# Altium integrated library Linear Technology Operational Amplifiers (LT2000-LT6000).IntLib: 1710 symbols (part 1 of 75)
Pins are listed as number, name and electrical type; pins without a type are passive.

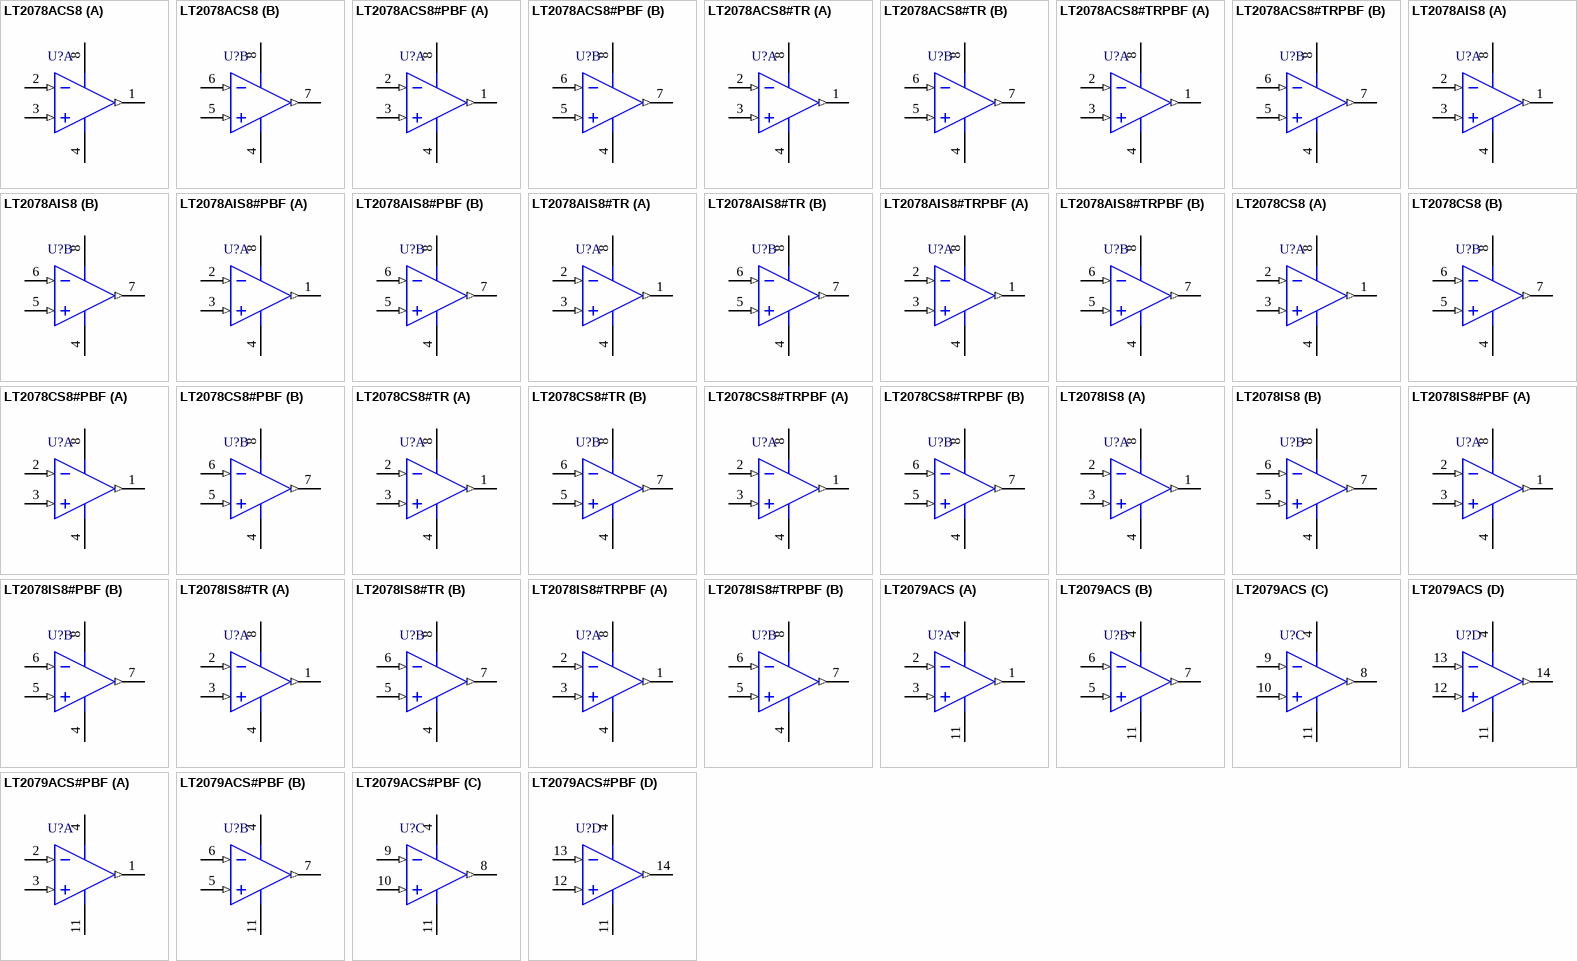
[diagram p0: symbols LT2078ACS8 to LT2079ACS#PBF]

## LT2078ACS8
designator U?
Dual Channel, Micropower, Standard Pinout, Single Supply Precision Operational Amplifier, 0.2 MHz Typical GBW, 0.07 V/us Typical SR, 2.3 to 44 V, 8-Pin SOIC (S8-8), Commerial; Linear Technology Part Number: LT2078; Manufacturer: Linear Technology; PartNumber: LT2078ACS8; Channels (#): 2; GBW (MHz) Typical: 0.2; Is (mA) Typical: 0.035; SR (V/us) Typical: 0.07; Vos (mV) Typical: 0.03; Vs Max (V): 44; Vs Min (V): 2.3; DatasheetVersion: Rev. A; PackageVersion: Rev G; PackageReference: LT-S8-8; PackageDescription: 8-Pin Plastic Small Outline, Body 4.9 x 3.9 mm, Pitch 1.27 mm; Supplier 1: Digi-Key; Supplier Part Number 1: LT2078ACS8-ND; Type: VFB; Vos (mV) Guaranteed: 0.07; Mounting Technology: Surface Mount; ComponentLink1Description: Manufacturer URL; ComponentLink1URL: http://www.linear.com/; ComponentLink2Description: Datasheet; ComponentLink2URL: http://cds.linear.com/docs/en/datasheet/20789fa.pdf; ComponentLink3Description: Package Specification; ComponentLink3URL: http://cds.linear.com/docs/en/packaging/05081610_G_SO8.pdf
footprint LT-S8-8_N (SOIC, 8-Leads, Body 4.9x3.9mm, Pitch 1.27mm, IPC Medium Density)
footprint LT-S8-8_L (SOIC, 8-Leads, Body 4.9x3.9mm, Pitch 1.27mm, IPC High Density)
footprint LT-S8-8_M (SOIC, 8-Leads, Body 4.9x3.9mm, Pitch 1.27mm, IPC Low Density)
pins on every part: 4 V- (power), 8 V+ (power)
part A pins: 1 OUT A (out), 2 -IN A (in), 3 +IN A (in)
part B pins: 5 +IN B (in), 6 -IN B (in), 7 OUT B (out)

## LT2078ACS8#PBF
designator U?
Dual Channel, Micropower, Standard Pinout, Single Supply Precision Operational Amplifier, 0.2 MHz Typical GBW, 0.07 V/us Typical SR, 2.3 to 44 V, 8-Pin SOIC (S8-8), Commerial, Pb-Free; Linear Technology Part Number: LT2078; Manufacturer: Linear Technology; PartNumber: LT2078ACS8#PBF; Channels (#): 2; GBW (MHz) Typical: 0.2; Is (mA) Typical: 0.035; SR (V/us) Typical: 0.07; Vos (mV) Typical: 0.03; Vs Max (V): 44; Vs Min (V): 2.3; DatasheetVersion: Rev. A; PackageVersion: Rev G; PackageReference: LT-S8-8; PackageDescription: 8-Pin Plastic Small Outline, Body 4.9 x 3.9 mm, Pitch 1.27 mm; Supplier 1: Digi-Key; Supplier Part Number 1: LT2078ACS8#PBF-ND; RoHS: Pb-Free; Type: VFB; Vos (mV) Guaranteed: 0.07; Mounting Technology: Surface Mount; ComponentLink1Description: Manufacturer URL; ComponentLink1URL: http://www.linear.com/; ComponentLink2Description: Datasheet; ComponentLink2URL: http://cds.linear.com/docs/en/datasheet/20789fa.pdf; ComponentLink3Description: Package Specification; ComponentLink3URL: http://cds.linear.com/docs/en/packaging/05081610_G_SO8.pdf
footprint LT-S8-8_N (SOIC, 8-Leads, Body 4.9x3.9mm, Pitch 1.27mm, IPC Medium Density)
footprint LT-S8-8_L (SOIC, 8-Leads, Body 4.9x3.9mm, Pitch 1.27mm, IPC High Density)
footprint LT-S8-8_M (SOIC, 8-Leads, Body 4.9x3.9mm, Pitch 1.27mm, IPC Low Density)
pins on every part: 4 V- (power), 8 V+ (power)
part A pins: 1 OUT A (out), 2 -IN A (in), 3 +IN A (in)
part B pins: 5 +IN B (in), 6 -IN B (in), 7 OUT B (out)

## LT2078ACS8#TR
designator U?
Dual Channel, Micropower, Standard Pinout, Single Supply Precision Operational Amplifier, 0.2 MHz Typical GBW, 0.07 V/us Typical SR, 2.3 to 44 V, 8-Pin SOIC (S8-8), Commerial, Reel; Linear Technology Part Number: LT2078; Manufacturer: Linear Technology; PartNumber: LT2078ACS8#TR; Channels (#): 2; GBW (MHz) Typical: 0.2; Is (mA) Typical: 0.035; SR (V/us) Typical: 0.07; Vos (mV) Typical: 0.03; Vs Max (V): 44; Vs Min (V): 2.3; DatasheetVersion: Rev. A; PackageVersion: Rev G; PackageReference: LT-S8-8; PackageDescription: 8-Pin Plastic Small Outline, Body 4.9 x 3.9 mm, Pitch 1.27 mm; Supplier 1: Digi-Key; Supplier Part Number 1: LT2078ACS8#TR-ND; Packing: Reel; Type: VFB; Vos (mV) Guaranteed: 0.07; Mounting Technology: Surface Mount; ComponentLink1Description: Manufacturer URL; ComponentLink1URL: http://www.linear.com/; ComponentLink2Description: Datasheet; ComponentLink2URL: http://cds.linear.com/docs/en/datasheet/20789fa.pdf; ComponentLink3Description: Package Specification; ComponentLink3URL: http://cds.linear.com/docs/en/packaging/05081610_G_SO8.pdf
footprint LT-S8-8_N (SOIC, 8-Leads, Body 4.9x3.9mm, Pitch 1.27mm, IPC Medium Density)
footprint LT-S8-8_L (SOIC, 8-Leads, Body 4.9x3.9mm, Pitch 1.27mm, IPC High Density)
footprint LT-S8-8_M (SOIC, 8-Leads, Body 4.9x3.9mm, Pitch 1.27mm, IPC Low Density)
pins on every part: 4 V- (power), 8 V+ (power)
part A pins: 1 OUT A (out), 2 -IN A (in), 3 +IN A (in)
part B pins: 5 +IN B (in), 6 -IN B (in), 7 OUT B (out)

## LT2078ACS8#TRPBF
designator U?
Dual Channel, Micropower, Standard Pinout, Single Supply Precision Operational Amplifier, 0.2 MHz Typical GBW, 0.07 V/us Typical SR, 2.3 to 44 V, 8-Pin SOIC (S8-8), Commerial, Pb-Free, Reel; Linear Technology Part Number: LT2078; Manufacturer: Linear Technology; PartNumber: LT2078ACS8#TRPBF; Channels (#): 2; GBW (MHz) Typical: 0.2; Is (mA) Typical: 0.035; SR (V/us) Typical: 0.07; Vos (mV) Typical: 0.03; Vs Max (V): 44; Vs Min (V): 2.3; DatasheetVersion: Rev. A; PackageVersion: Rev G; PackageReference: LT-S8-8; PackageDescription: 8-Pin Plastic Small Outline, Body 4.9 x 3.9 mm, Pitch 1.27 mm; Supplier 1: Digi-Key; Supplier Part Number 1: LT2078ACS8#TRPBF-ND; Packing: Reel; RoHS: Pb-Free; Type: VFB; Vos (mV) Guaranteed: 0.07; Mounting Technology: Surface Mount; ComponentLink1Description: Manufacturer URL; ComponentLink1URL: http://www.linear.com/; ComponentLink2Description: Datasheet; ComponentLink2URL: http://cds.linear.com/docs/en/datasheet/20789fa.pdf; ComponentLink3Description: Package Specification; ComponentLink3URL: http://cds.linear.com/docs/en/packaging/05081610_G_SO8.pdf
footprint LT-S8-8_N (SOIC, 8-Leads, Body 4.9x3.9mm, Pitch 1.27mm, IPC Medium Density)
footprint LT-S8-8_L (SOIC, 8-Leads, Body 4.9x3.9mm, Pitch 1.27mm, IPC High Density)
footprint LT-S8-8_M (SOIC, 8-Leads, Body 4.9x3.9mm, Pitch 1.27mm, IPC Low Density)
pins on every part: 4 V- (power), 8 V+ (power)
part A pins: 1 OUT A (out), 2 -IN A (in), 3 +IN A (in)
part B pins: 5 +IN B (in), 6 -IN B (in), 7 OUT B (out)

## LT2078AIS8
designator U?
Dual Channel, Micropower, Standard Pinout, Single Supply Precision Operational Amplifier, 0.2 MHz Typical GBW, 0.07 V/us Typical SR, 2.3 to 44 V, 8-Pin SOIC (S8-8), Industrial; Linear Technology Part Number: LT2078; Manufacturer: Linear Technology; PartNumber: LT2078AIS8; Channels (#): 2; GBW (MHz) Typical: 0.2; Is (mA) Typical: 0.035; SR (V/us) Typical: 0.07; Vos (mV) Typical: 0.03; Vs Max (V): 44; Vs Min (V): 2.3; DatasheetVersion: Rev. A; PackageVersion: Rev G; PackageReference: LT-S8-8; PackageDescription: 8-Pin Plastic Small Outline, Body 4.9 x 3.9 mm, Pitch 1.27 mm; Supplier 1: Digi-Key; Supplier Part Number 1: LT2078AIS8-ND; Type: VFB; Vos (mV) Guaranteed: 0.07; Mounting Technology: Surface Mount; ComponentLink1Description: Manufacturer URL; ComponentLink1URL: http://www.linear.com/; ComponentLink2Description: Datasheet; ComponentLink2URL: http://cds.linear.com/docs/en/datasheet/20789fa.pdf; ComponentLink3Description: Package Specification; ComponentLink3URL: http://cds.linear.com/docs/en/packaging/05081610_G_SO8.pdf
footprint LT-S8-8_N (SOIC, 8-Leads, Body 4.9x3.9mm, Pitch 1.27mm, IPC Medium Density)
footprint LT-S8-8_L (SOIC, 8-Leads, Body 4.9x3.9mm, Pitch 1.27mm, IPC High Density)
footprint LT-S8-8_M (SOIC, 8-Leads, Body 4.9x3.9mm, Pitch 1.27mm, IPC Low Density)
pins on every part: 4 V- (power), 8 V+ (power)
part A pins: 1 OUT A (out), 2 -IN A (in), 3 +IN A (in)
part B pins: 5 +IN B (in), 6 -IN B (in), 7 OUT B (out)

## LT2078AIS8#PBF
designator U?
Dual Channel, Micropower, Standard Pinout, Single Supply Precision Operational Amplifier, 0.2 MHz Typical GBW, 0.07 V/us Typical SR, 2.3 to 44 V, 8-Pin SOIC (S8-8), Industrial, Pb-Free; Linear Technology Part Number: LT2078; Manufacturer: Linear Technology; PartNumber: LT2078AIS8#PBF; Channels (#): 2; GBW (MHz) Typical: 0.2; Is (mA) Typical: 0.035; SR (V/us) Typical: 0.07; Vos (mV) Typical: 0.03; Vs Max (V): 44; Vs Min (V): 2.3; DatasheetVersion: Rev. A; PackageVersion: Rev G; PackageReference: LT-S8-8; PackageDescription: 8-Pin Plastic Small Outline, Body 4.9 x 3.9 mm, Pitch 1.27 mm; Supplier 1: Digi-Key; Supplier Part Number 1: LT2078AIS8#PBF-ND; Supplier 2: Newark; Supplier Part Number 2: 57M7771; RoHS: Pb-Free; Type: VFB; Vos (mV) Guaranteed: 0.07; Mounting Technology: Surface Mount; ComponentLink1Description: Manufacturer URL; ComponentLink1URL: http://www.linear.com/; ComponentLink2Description: Datasheet; ComponentLink2URL: http://cds.linear.com/docs/en/datasheet/20789fa.pdf; ComponentLink3Description: Package Specification; ComponentLink3URL: http://cds.linear.com/docs/en/packaging/05081610_G_SO8.pdf
footprint LT-S8-8_N (SOIC, 8-Leads, Body 4.9x3.9mm, Pitch 1.27mm, IPC Medium Density)
footprint LT-S8-8_L (SOIC, 8-Leads, Body 4.9x3.9mm, Pitch 1.27mm, IPC High Density)
footprint LT-S8-8_M (SOIC, 8-Leads, Body 4.9x3.9mm, Pitch 1.27mm, IPC Low Density)
pins on every part: 4 V- (power), 8 V+ (power)
part A pins: 1 OUT A (out), 2 -IN A (in), 3 +IN A (in)
part B pins: 5 +IN B (in), 6 -IN B (in), 7 OUT B (out)

## LT2078AIS8#TR
designator U?
Dual Channel, Micropower, Standard Pinout, Single Supply Precision Operational Amplifier, 0.2 MHz Typical GBW, 0.07 V/us Typical SR, 2.3 to 44 V, 8-Pin SOIC (S8-8), Industrial, Reel; Linear Technology Part Number: LT2078; Manufacturer: Linear Technology; PartNumber: LT2078AIS8#TR; Channels (#): 2; GBW (MHz) Typical: 0.2; Is (mA) Typical: 0.035; SR (V/us) Typical: 0.07; Vos (mV) Typical: 0.03; Vs Max (V): 44; Vs Min (V): 2.3; DatasheetVersion: Rev. A; PackageVersion: Rev G; PackageReference: LT-S8-8; PackageDescription: 8-Pin Plastic Small Outline, Body 4.9 x 3.9 mm, Pitch 1.27 mm; Supplier 1: Digi-Key; Supplier Part Number 1: LT2078AIS8#TR-ND; Packing: Reel; Type: VFB; Vos (mV) Guaranteed: 0.07; Mounting Technology: Surface Mount; ComponentLink1Description: Manufacturer URL; ComponentLink1URL: http://www.linear.com/; ComponentLink2Description: Datasheet; ComponentLink2URL: http://cds.linear.com/docs/en/datasheet/20789fa.pdf; ComponentLink3Description: Package Specification; ComponentLink3URL: http://cds.linear.com/docs/en/packaging/05081610_G_SO8.pdf
footprint LT-S8-8_N (SOIC, 8-Leads, Body 4.9x3.9mm, Pitch 1.27mm, IPC Medium Density)
footprint LT-S8-8_L (SOIC, 8-Leads, Body 4.9x3.9mm, Pitch 1.27mm, IPC High Density)
footprint LT-S8-8_M (SOIC, 8-Leads, Body 4.9x3.9mm, Pitch 1.27mm, IPC Low Density)
pins on every part: 4 V- (power), 8 V+ (power)
part A pins: 1 OUT A (out), 2 -IN A (in), 3 +IN A (in)
part B pins: 5 +IN B (in), 6 -IN B (in), 7 OUT B (out)

## LT2078AIS8#TRPBF
designator U?
Dual Channel, Micropower, Standard Pinout, Single Supply Precision Operational Amplifier, 0.2 MHz Typical GBW, 0.07 V/us Typical SR, 2.3 to 44 V, 8-Pin SOIC (S8-8), Industrial, Pb-Free, Reel; Linear Technology Part Number: LT2078; Manufacturer: Linear Technology; PartNumber: LT2078AIS8#TRPBF; Channels (#): 2; GBW (MHz) Typical: 0.2; Is (mA) Typical: 0.035; SR (V/us) Typical: 0.07; Vos (mV) Typical: 0.03; Vs Max (V): 44; Vs Min (V): 2.3; DatasheetVersion: Rev. A; PackageVersion: Rev G; PackageReference: LT-S8-8; PackageDescription: 8-Pin Plastic Small Outline, Body 4.9 x 3.9 mm, Pitch 1.27 mm; Supplier 1: Digi-Key; Supplier Part Number 1: LT2078AIS8#TRPBF-ND; Supplier 2: Newark; Supplier Part Number 2: 57M7773; Packing: Reel; RoHS: Pb-Free; Type: VFB; Vos (mV) Guaranteed: 0.07; Mounting Technology: Surface Mount; ComponentLink1Description: Manufacturer URL; ComponentLink1URL: http://www.linear.com/; ComponentLink2Description: Datasheet; ComponentLink2URL: http://cds.linear.com/docs/en/datasheet/20789fa.pdf; ComponentLink3Description: Package Specification; ComponentLink3URL: http://cds.linear.com/docs/en/packaging/05081610_G_SO8.pdf
footprint LT-S8-8_N (SOIC, 8-Leads, Body 4.9x3.9mm, Pitch 1.27mm, IPC Medium Density)
footprint LT-S8-8_L (SOIC, 8-Leads, Body 4.9x3.9mm, Pitch 1.27mm, IPC High Density)
footprint LT-S8-8_M (SOIC, 8-Leads, Body 4.9x3.9mm, Pitch 1.27mm, IPC Low Density)
pins on every part: 4 V- (power), 8 V+ (power)
part A pins: 1 OUT A (out), 2 -IN A (in), 3 +IN A (in)
part B pins: 5 +IN B (in), 6 -IN B (in), 7 OUT B (out)

## LT2078CS8
designator U?
Dual Channel, Micropower, Standard Pinout, Single Supply Precision Operational Amplifier, 0.2 MHz Typical GBW, 0.07 V/us Typical SR, 2.3 to 44 V, 8-Pin SOIC (S8-8), Commercial; Linear Technology Part Number: LT2078; Manufacturer: Linear Technology; PartNumber: LT2078CS8; Channels (#): 2; GBW (MHz) Typical: 0.2; Is (mA) Typical: 0.035; SR (V/us) Typical: 0.07; Vos (mV) Typical: 0.03; Vs Max (V): 44; Vs Min (V): 2.3; DatasheetVersion: Rev. A; PackageVersion: Rev G; PackageReference: LT-S8-8; PackageDescription: 8-Pin Plastic Small Outline, Body 4.9 x 3.9 mm, Pitch 1.27 mm; Type: VFB; Vos (mV) Guaranteed: 0.07; Mounting Technology: Surface Mount; ComponentLink1Description: Manufacturer URL; ComponentLink1URL: http://www.linear.com/; ComponentLink2Description: Datasheet; ComponentLink2URL: http://cds.linear.com/docs/en/datasheet/20789fa.pdf; ComponentLink3Description: Package Specification; ComponentLink3URL: http://cds.linear.com/docs/en/packaging/05081610_G_SO8.pdf
footprint LT-S8-8_N (SOIC, 8-Leads, Body 4.9x3.9mm, Pitch 1.27mm, IPC Medium Density)
footprint LT-S8-8_L (SOIC, 8-Leads, Body 4.9x3.9mm, Pitch 1.27mm, IPC High Density)
footprint LT-S8-8_M (SOIC, 8-Leads, Body 4.9x3.9mm, Pitch 1.27mm, IPC Low Density)
pins on every part: 4 V- (power), 8 V+ (power)
part A pins: 1 OUT A (out), 2 -IN A (in), 3 +IN A (in)
part B pins: 5 +IN B (in), 6 -IN B (in), 7 OUT B (out)

## LT2078CS8#PBF
designator U?
Dual Channel, Micropower, Standard Pinout, Single Supply Precision Operational Amplifier, 0.2 MHz Typical GBW, 0.07 V/us Typical SR, 2.3 to 44 V, 8-Pin SOIC (S8-8), Commercial, Pb-Free; Linear Technology Part Number: LT2078; Manufacturer: Linear Technology; PartNumber: LT2078CS8#PBF; Channels (#): 2; GBW (MHz) Typical: 0.2; Is (mA) Typical: 0.035; SR (V/us) Typical: 0.07; Vos (mV) Typical: 0.03; Vs Max (V): 44; Vs Min (V): 2.3; DatasheetVersion: Rev. A; PackageVersion: Rev G; PackageReference: LT-S8-8; PackageDescription: 8-Pin Plastic Small Outline, Body 4.9 x 3.9 mm, Pitch 1.27 mm; Supplier 1: Digi-Key; Supplier Part Number 1: LT2078CS8#PBF-ND; Supplier 2: Newark; Supplier Part Number 2: 57M7775; RoHS: Pb-Free; Type: VFB; Vos (mV) Guaranteed: 0.07; Mounting Technology: Surface Mount; ComponentLink1Description: Manufacturer URL; ComponentLink1URL: http://www.linear.com/; ComponentLink2Description: Datasheet; ComponentLink2URL: http://cds.linear.com/docs/en/datasheet/20789fa.pdf; ComponentLink3Description: Package Specification; ComponentLink3URL: http://cds.linear.com/docs/en/packaging/05081610_G_SO8.pdf
footprint LT-S8-8_N (SOIC, 8-Leads, Body 4.9x3.9mm, Pitch 1.27mm, IPC Medium Density)
footprint LT-S8-8_L (SOIC, 8-Leads, Body 4.9x3.9mm, Pitch 1.27mm, IPC High Density)
footprint LT-S8-8_M (SOIC, 8-Leads, Body 4.9x3.9mm, Pitch 1.27mm, IPC Low Density)
pins on every part: 4 V- (power), 8 V+ (power)
part A pins: 1 OUT A (out), 2 -IN A (in), 3 +IN A (in)
part B pins: 5 +IN B (in), 6 -IN B (in), 7 OUT B (out)

## LT2078CS8#TR
designator U?
Dual Channel, Micropower, Standard Pinout, Single Supply Precision Operational Amplifier, 0.2 MHz Typical GBW, 0.07 V/us Typical SR, 2.3 to 44 V, 8-Pin SOIC (S8-8), Commercial, Reel; Linear Technology Part Number: LT2078; Manufacturer: Linear Technology; PartNumber: LT2078CS8#TR; Channels (#): 2; GBW (MHz) Typical: 0.2; Is (mA) Typical: 0.035; SR (V/us) Typical: 0.07; Vos (mV) Typical: 0.03; Vs Max (V): 44; Vs Min (V): 2.3; DatasheetVersion: Rev. A; PackageVersion: Rev G; PackageReference: LT-S8-8; PackageDescription: 8-Pin Plastic Small Outline, Body 4.9 x 3.9 mm, Pitch 1.27 mm; Supplier 1: Digi-Key; Supplier Part Number 1: LT2078CS8#TR-ND; Packing: Reel; Type: VFB; Vos (mV) Guaranteed: 0.07; Mounting Technology: Surface Mount; ComponentLink1Description: Manufacturer URL; ComponentLink1URL: http://www.linear.com/; ComponentLink2Description: Datasheet; ComponentLink2URL: http://cds.linear.com/docs/en/datasheet/20789fa.pdf; ComponentLink3Description: Package Specification; ComponentLink3URL: http://cds.linear.com/docs/en/packaging/05081610_G_SO8.pdf
footprint LT-S8-8_N (SOIC, 8-Leads, Body 4.9x3.9mm, Pitch 1.27mm, IPC Medium Density)
footprint LT-S8-8_L (SOIC, 8-Leads, Body 4.9x3.9mm, Pitch 1.27mm, IPC High Density)
footprint LT-S8-8_M (SOIC, 8-Leads, Body 4.9x3.9mm, Pitch 1.27mm, IPC Low Density)
pins on every part: 4 V- (power), 8 V+ (power)
part A pins: 1 OUT A (out), 2 -IN A (in), 3 +IN A (in)
part B pins: 5 +IN B (in), 6 -IN B (in), 7 OUT B (out)

## LT2078CS8#TRPBF
designator U?
Dual Channel, Micropower, Standard Pinout, Single Supply Precision Operational Amplifier, 0.2 MHz Typical GBW, 0.07 V/us Typical SR, 2.3 to 44 V, 8-Pin SOIC (S8-8), Commercial, Pb-Free, Reel; Linear Technology Part Number: LT2078; Manufacturer: Linear Technology; PartNumber: LT2078CS8#TRPBF; Channels (#): 2; GBW (MHz) Typical: 0.2; Is (mA) Typical: 0.035; SR (V/us) Typical: 0.07; Vos (mV) Typical: 0.03; Vs Max (V): 44; Vs Min (V): 2.3; DatasheetVersion: Rev. A; PackageVersion: Rev G; PackageReference: LT-S8-8; PackageDescription: 8-Pin Plastic Small Outline, Body 4.9 x 3.9 mm, Pitch 1.27 mm; Supplier 1: Digi-Key; Supplier Part Number 1: LT2078CS8#TRPBF-ND; Packing: Reel; RoHS: Pb-Free; Type: VFB; Vos (mV) Guaranteed: 0.07; Mounting Technology: Surface Mount; ComponentLink1Description: Manufacturer URL; ComponentLink1URL: http://www.linear.com/; ComponentLink2Description: Datasheet; ComponentLink2URL: http://cds.linear.com/docs/en/datasheet/20789fa.pdf; ComponentLink3Description: Package Specification; ComponentLink3URL: http://cds.linear.com/docs/en/packaging/05081610_G_SO8.pdf
footprint LT-S8-8_N (SOIC, 8-Leads, Body 4.9x3.9mm, Pitch 1.27mm, IPC Medium Density)
footprint LT-S8-8_L (SOIC, 8-Leads, Body 4.9x3.9mm, Pitch 1.27mm, IPC High Density)
footprint LT-S8-8_M (SOIC, 8-Leads, Body 4.9x3.9mm, Pitch 1.27mm, IPC Low Density)
pins on every part: 4 V- (power), 8 V+ (power)
part A pins: 1 OUT A (out), 2 -IN A (in), 3 +IN A (in)
part B pins: 5 +IN B (in), 6 -IN B (in), 7 OUT B (out)

## LT2078IS8
designator U?
Dual Channel, Micropower, Standard Pinout, Single Supply Precision Operational Amplifier, 0.2 MHz Typical GBW, 0.07 V/us Typical SR, 2.3 to 44 V, 8-Pin SOIC (S8-8), Industrial; Linear Technology Part Number: LT2078; Manufacturer: Linear Technology; PartNumber: LT2078IS8; Channels (#): 2; GBW (MHz) Typical: 0.2; Is (mA) Typical: 0.035; SR (V/us) Typical: 0.07; Vos (mV) Typical: 0.03; Vs Max (V): 44; Vs Min (V): 2.3; DatasheetVersion: Rev. A; PackageVersion: Rev G; PackageReference: LT-S8-8; PackageDescription: 8-Pin Plastic Small Outline, Body 4.9 x 3.9 mm, Pitch 1.27 mm; Supplier 1: Digi-Key; Supplier Part Number 1: LT2078IS8-ND; Supplier 2: Newark; Supplier Part Number 2: 57M7778; Type: VFB; Vos (mV) Guaranteed: 0.07; Mounting Technology: Surface Mount; ComponentLink1Description: Manufacturer URL; ComponentLink1URL: http://www.linear.com/; ComponentLink2Description: Datasheet; ComponentLink2URL: http://cds.linear.com/docs/en/datasheet/20789fa.pdf; ComponentLink3Description: Package Specification; ComponentLink3URL: http://cds.linear.com/docs/en/packaging/05081610_G_SO8.pdf
footprint LT-S8-8_N (SOIC, 8-Leads, Body 4.9x3.9mm, Pitch 1.27mm, IPC Medium Density)
footprint LT-S8-8_L (SOIC, 8-Leads, Body 4.9x3.9mm, Pitch 1.27mm, IPC High Density)
footprint LT-S8-8_M (SOIC, 8-Leads, Body 4.9x3.9mm, Pitch 1.27mm, IPC Low Density)
pins on every part: 4 V- (power), 8 V+ (power)
part A pins: 1 OUT A (out), 2 -IN A (in), 3 +IN A (in)
part B pins: 5 +IN B (in), 6 -IN B (in), 7 OUT B (out)

## LT2078IS8#PBF
designator U?
Dual Channel, Micropower, Standard Pinout, Single Supply Precision Operational Amplifier, 0.2 MHz Typical GBW, 0.07 V/us Typical SR, 2.3 to 44 V, 8-Pin SOIC (S8-8), Industrial, Pb-Free; Linear Technology Part Number: LT2078; Manufacturer: Linear Technology; PartNumber: LT2078IS8#PBF; Channels (#): 2; GBW (MHz) Typical: 0.2; Is (mA) Typical: 0.035; SR (V/us) Typical: 0.07; Vos (mV) Typical: 0.03; Vs Max (V): 44; Vs Min (V): 2.3; DatasheetVersion: Rev. A; PackageVersion: Rev G; PackageReference: LT-S8-8; PackageDescription: 8-Pin Plastic Small Outline, Body 4.9 x 3.9 mm, Pitch 1.27 mm; Supplier 1: Digi-Key; Supplier Part Number 1: LT2078IS8#PBF-ND; Supplier 2: Farnell; Supplier Part Number 2: 1663541; Supplier 3: Newark; Supplier Part Number 3: 57M7779; RoHS: Pb-Free; Type: VFB; Vos (mV) Guaranteed: 0.07; Mounting Technology: Surface Mount; ComponentLink1Description: Manufacturer URL; ComponentLink1URL: http://www.linear.com/; ComponentLink2Description: Datasheet; ComponentLink2URL: http://cds.linear.com/docs/en/datasheet/20789fa.pdf; ComponentLink3Description: Package Specification; ComponentLink3URL: http://cds.linear.com/docs/en/packaging/05081610_G_SO8.pdf
footprint LT-S8-8_N (SOIC, 8-Leads, Body 4.9x3.9mm, Pitch 1.27mm, IPC Medium Density)
footprint LT-S8-8_L (SOIC, 8-Leads, Body 4.9x3.9mm, Pitch 1.27mm, IPC High Density)
footprint LT-S8-8_M (SOIC, 8-Leads, Body 4.9x3.9mm, Pitch 1.27mm, IPC Low Density)
pins on every part: 4 V- (power), 8 V+ (power)
part A pins: 1 OUT A (out), 2 -IN A (in), 3 +IN A (in)
part B pins: 5 +IN B (in), 6 -IN B (in), 7 OUT B (out)

## LT2078IS8#TR
designator U?
Dual Channel, Micropower, Standard Pinout, Single Supply Precision Operational Amplifier, 0.2 MHz Typical GBW, 0.07 V/us Typical SR, 2.3 to 44 V, 8-Pin SOIC (S8-8), Industrial, Reel; Linear Technology Part Number: LT2078; Manufacturer: Linear Technology; PartNumber: LT2078IS8#TR; Channels (#): 2; GBW (MHz) Typical: 0.2; Is (mA) Typical: 0.035; SR (V/us) Typical: 0.07; Vos (mV) Typical: 0.03; Vs Max (V): 44; Vs Min (V): 2.3; DatasheetVersion: Rev. A; PackageVersion: Rev G; PackageReference: LT-S8-8; PackageDescription: 8-Pin Plastic Small Outline, Body 4.9 x 3.9 mm, Pitch 1.27 mm; Supplier 1: Digi-Key; Supplier Part Number 1: LT2078IS8#TR-ND; Packing: Reel; Type: VFB; Vos (mV) Guaranteed: 0.07; Mounting Technology: Surface Mount; ComponentLink1Description: Manufacturer URL; ComponentLink1URL: http://www.linear.com/; ComponentLink2Description: Datasheet; ComponentLink2URL: http://cds.linear.com/docs/en/datasheet/20789fa.pdf; ComponentLink3Description: Package Specification; ComponentLink3URL: http://cds.linear.com/docs/en/packaging/05081610_G_SO8.pdf
footprint LT-S8-8_N (SOIC, 8-Leads, Body 4.9x3.9mm, Pitch 1.27mm, IPC Medium Density)
footprint LT-S8-8_L (SOIC, 8-Leads, Body 4.9x3.9mm, Pitch 1.27mm, IPC High Density)
footprint LT-S8-8_M (SOIC, 8-Leads, Body 4.9x3.9mm, Pitch 1.27mm, IPC Low Density)
pins on every part: 4 V- (power), 8 V+ (power)
part A pins: 1 OUT A (out), 2 -IN A (in), 3 +IN A (in)
part B pins: 5 +IN B (in), 6 -IN B (in), 7 OUT B (out)

## LT2078IS8#TRPBF
designator U?
Dual Channel, Micropower, Standard Pinout, Single Supply Precision Operational Amplifier, 0.2 MHz Typical GBW, 0.07 V/us Typical SR, 2.3 to 44 V, 8-Pin SOIC (S8-8), Industrial, Pb-Free, Reel; Linear Technology Part Number: LT2078; Manufacturer: Linear Technology; PartNumber: LT2078IS8#TRPBF; Channels (#): 2; GBW (MHz) Typical: 0.2; Is (mA) Typical: 0.035; SR (V/us) Typical: 0.07; Vos (mV) Typical: 0.03; Vs Max (V): 44; Vs Min (V): 2.3; DatasheetVersion: Rev. A; PackageVersion: Rev G; PackageReference: LT-S8-8; PackageDescription: 8-Pin Plastic Small Outline, Body 4.9 x 3.9 mm, Pitch 1.27 mm; Supplier 1: Digi-Key; Supplier Part Number 1: LT2078IS8#TRPBF-ND; Packing: Reel; RoHS: Pb-Free; Type: VFB; Vos (mV) Guaranteed: 0.07; Mounting Technology: Surface Mount; ComponentLink1Description: Manufacturer URL; ComponentLink1URL: http://www.linear.com/; ComponentLink2Description: Datasheet; ComponentLink2URL: http://cds.linear.com/docs/en/datasheet/20789fa.pdf; ComponentLink3Description: Package Specification; ComponentLink3URL: http://cds.linear.com/docs/en/packaging/05081610_G_SO8.pdf
footprint LT-S8-8_N (SOIC, 8-Leads, Body 4.9x3.9mm, Pitch 1.27mm, IPC Medium Density)
footprint LT-S8-8_L (SOIC, 8-Leads, Body 4.9x3.9mm, Pitch 1.27mm, IPC High Density)
footprint LT-S8-8_M (SOIC, 8-Leads, Body 4.9x3.9mm, Pitch 1.27mm, IPC Low Density)
pins on every part: 4 V- (power), 8 V+ (power)
part A pins: 1 OUT A (out), 2 -IN A (in), 3 +IN A (in)
part B pins: 5 +IN B (in), 6 -IN B (in), 7 OUT B (out)

## LT2079ACS
designator U?
Quad Channel, Micropower, Standard Pinout, Single Supply Precision Operational Amplifier, 0.2 MHz Typical GBW, 0.07 V/us Typical SR, 2.3 to 44 V, 14-Pin SOIC (S-14), Commercial; Linear Technology Part Number: LT2079; Manufacturer: Linear Technology; PartNumber: LT2079ACS; Channels (#): 4; GBW (MHz) Typical: 0.2; Is (mA) Typical: 0.035; SR (V/us) Typical: 0.07; Vos (mV) Guaranteed: 0.11; Vs Max (V): 44; Vs Min (V): 2.3; DatasheetVersion: Rev. A; PackageVersion: Rev G; PackageReference: LT-S-14; PackageDescription: 14-Lead Plastic Small Outline, Body 8.65 x 3.90 mm, Pitch 1.27 mm; Supplier 1: Digi-Key; Supplier Part Number 1: LT2079ACS-ND; Type: VFB; Vos (mV) Typical: 0.035; Mounting Technology: Surface Mount; ComponentLink1Description: Manufacturer URL; ComponentLink1URL: http://www.linear.com/; ComponentLink2Description: Datasheet; ComponentLink2URL: http://cds.linear.com/docs/en/datasheet/20789fa.pdf; ComponentLink3Description: Package Specification; ComponentLink3URL: http://cds.linear.com/docs/en/packaging/05081610_G_S14.pdf
footprint LT-S-14_N (SOIC, 14-Leads, Body 8.65x3.90mm, Pitch 1.27mm, IPC Medium Density)
footprint LT-S-14_L (SOIC, 14-Leads, Body 8.65x3.90mm, Pitch 1.27mm, IPC High Density)
footprint LT-S-14_M (SOIC, 14-Leads, Body 8.65x3.90mm, Pitch 1.27mm, IPC Low Density)
pins on every part: 4 V+ (power), 11 V- (power)
part A pins: 1 OUT A (out), 2 -IN A (in), 3 +IN A (in)
part B pins: 5 +IN B (in), 6 -IN B (in), 7 OUT B (out)
part C pins: 8 OUT C (out), 9 -IN C (in), 10 +IN C (in)
part D pins: 12 +IN D (in), 13 -IN D (in), 14 OUT D (out)

## LT2079ACS#PBF
designator U?
Quad Channel, Micropower, Standard Pinout, Single Supply Precision Operational Amplifier, 0.2 MHz Typical GBW, 0.07 V/us Typical SR, 2.3 to 44 V, 14-Pin SOIC (S-14), Commercial, Pb-Free; Linear Technology Part Number: LT2079; Manufacturer: Linear Technology; PartNumber: LT2079ACS#PBF; Channels (#): 4; GBW (MHz) Typical: 0.2; Is (mA) Typical: 0.035; SR (V/us) Typical: 0.07; Vos (mV) Guaranteed: 0.11; Vs Max (V): 44; Vs Min (V): 2.3; DatasheetVersion: Rev. A; PackageVersion: Rev G; PackageReference: LT-S-14; PackageDescription: 14-Lead Plastic Small Outline, Body 8.65 x 3.90 mm, Pitch 1.27 mm; Supplier 1: Digi-Key; Supplier Part Number 1: LT2079ACS#PBF-ND; RoHS: Pb-Free; Type: VFB; Vos (mV) Typical: 0.035; Mounting Technology: Surface Mount; ComponentLink1Description: Manufacturer URL; ComponentLink1URL: http://www.linear.com/; ComponentLink2Description: Datasheet; ComponentLink2URL: http://cds.linear.com/docs/en/datasheet/20789fa.pdf; ComponentLink3Description: Package Specification; ComponentLink3URL: http://cds.linear.com/docs/en/packaging/05081610_G_S14.pdf
footprint LT-S-14_N (SOIC, 14-Leads, Body 8.65x3.90mm, Pitch 1.27mm, IPC Medium Density)
footprint LT-S-14_L (SOIC, 14-Leads, Body 8.65x3.90mm, Pitch 1.27mm, IPC High Density)
footprint LT-S-14_M (SOIC, 14-Leads, Body 8.65x3.90mm, Pitch 1.27mm, IPC Low Density)
pins on every part: 4 V+ (power), 11 V- (power)
part A pins: 1 OUT A (out), 2 -IN A (in), 3 +IN A (in)
part B pins: 5 +IN B (in), 6 -IN B (in), 7 OUT B (out)
part C pins: 8 OUT C (out), 9 -IN C (in), 10 +IN C (in)
part D pins: 12 +IN D (in), 13 -IN D (in), 14 OUT D (out)

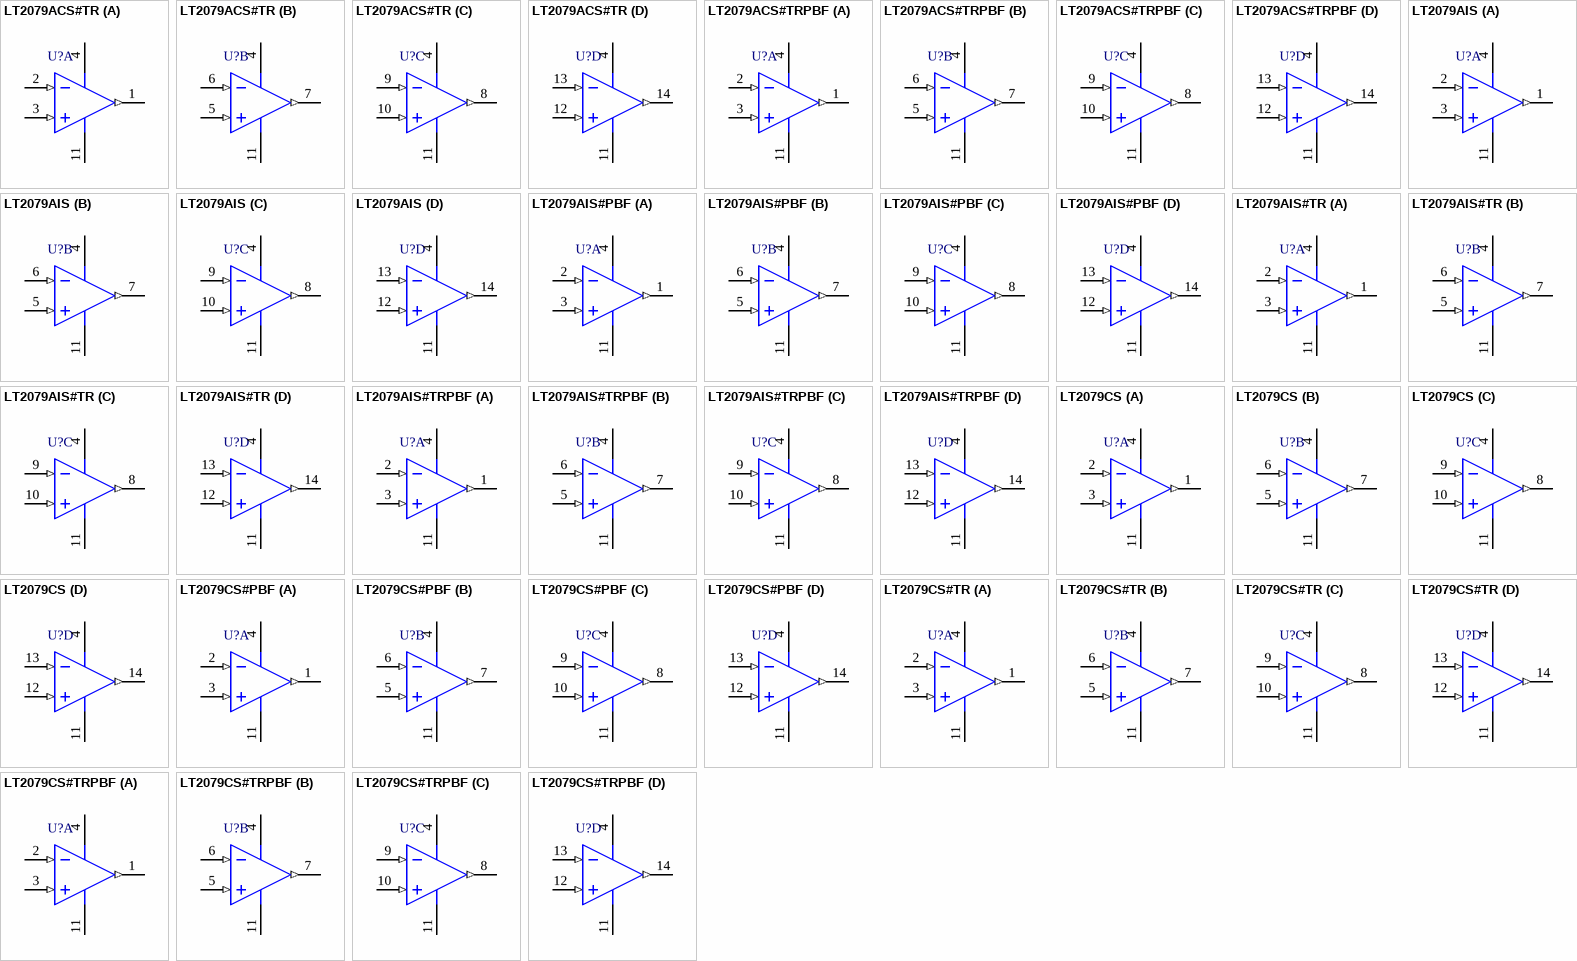
[diagram p1: symbols LT2079ACS#TR to LT2079CS#TRPBF]

## LT2079ACS#TR
designator U?
Quad Channel, Micropower, Standard Pinout, Single Supply Precision Operational Amplifier, 0.2 MHz Typical GBW, 0.07 V/us Typical SR, 2.3 to 44 V, 14-Pin SOIC (S-14), Commercial, Reel; Linear Technology Part Number: LT2079; Manufacturer: Linear Technology; PartNumber: LT2079ACS#TR; Channels (#): 4; GBW (MHz) Typical: 0.2; Is (mA) Typical: 0.035; SR (V/us) Typical: 0.07; Vos (mV) Guaranteed: 0.11; Vs Max (V): 44; Vs Min (V): 2.3; DatasheetVersion: Rev. A; PackageVersion: Rev G; PackageReference: LT-S-14; PackageDescription: 14-Lead Plastic Small Outline, Body 8.65 x 3.90 mm, Pitch 1.27 mm; Supplier 1: Digi-Key; Supplier Part Number 1: LT2079ACS#TR-ND; Packing: Reel; Type: VFB; Vos (mV) Typical: 0.035; Mounting Technology: Surface Mount; ComponentLink1Description: Manufacturer URL; ComponentLink1URL: http://www.linear.com/; ComponentLink2Description: Datasheet; ComponentLink2URL: http://cds.linear.com/docs/en/datasheet/20789fa.pdf; ComponentLink3Description: Package Specification; ComponentLink3URL: http://cds.linear.com/docs/en/packaging/05081610_G_S14.pdf
footprint LT-S-14_N (SOIC, 14-Leads, Body 8.65x3.90mm, Pitch 1.27mm, IPC Medium Density)
footprint LT-S-14_L (SOIC, 14-Leads, Body 8.65x3.90mm, Pitch 1.27mm, IPC High Density)
footprint LT-S-14_M (SOIC, 14-Leads, Body 8.65x3.90mm, Pitch 1.27mm, IPC Low Density)
pins on every part: 4 V+ (power), 11 V- (power)
part A pins: 1 OUT A (out), 2 -IN A (in), 3 +IN A (in)
part B pins: 5 +IN B (in), 6 -IN B (in), 7 OUT B (out)
part C pins: 8 OUT C (out), 9 -IN C (in), 10 +IN C (in)
part D pins: 12 +IN D (in), 13 -IN D (in), 14 OUT D (out)

## LT2079ACS#TRPBF
designator U?
Quad Channel, Micropower, Standard Pinout, Single Supply Precision Operational Amplifier, 0.2 MHz Typical GBW, 0.07 V/us Typical SR, 2.3 to 44 V, 14-Pin SOIC (S-14), Commercial, Pb-Free, Reel; Linear Technology Part Number: LT2079; Manufacturer: Linear Technology; PartNumber: LT2079ACS#TRPBF; Channels (#): 4; GBW (MHz) Typical: 0.2; Is (mA) Typical: 0.035; SR (V/us) Typical: 0.07; Vos (mV) Guaranteed: 0.11; Vs Max (V): 44; Vs Min (V): 2.3; DatasheetVersion: Rev. A; PackageVersion: Rev G; PackageReference: LT-S-14; PackageDescription: 14-Lead Plastic Small Outline, Body 8.65 x 3.90 mm, Pitch 1.27 mm; Supplier 1: Digi-Key; Supplier Part Number 1: LT2079ACS#TRPBF-ND; Packing: Reel; RoHS: Pb-Free; Type: VFB; Vos (mV) Typical: 0.035; Mounting Technology: Surface Mount; ComponentLink1Description: Manufacturer URL; ComponentLink1URL: http://www.linear.com/; ComponentLink2Description: Datasheet; ComponentLink2URL: http://cds.linear.com/docs/en/datasheet/20789fa.pdf; ComponentLink3Description: Package Specification; ComponentLink3URL: http://cds.linear.com/docs/en/packaging/05081610_G_S14.pdf
footprint LT-S-14_N (SOIC, 14-Leads, Body 8.65x3.90mm, Pitch 1.27mm, IPC Medium Density)
footprint LT-S-14_L (SOIC, 14-Leads, Body 8.65x3.90mm, Pitch 1.27mm, IPC High Density)
footprint LT-S-14_M (SOIC, 14-Leads, Body 8.65x3.90mm, Pitch 1.27mm, IPC Low Density)
pins on every part: 4 V+ (power), 11 V- (power)
part A pins: 1 OUT A (out), 2 -IN A (in), 3 +IN A (in)
part B pins: 5 +IN B (in), 6 -IN B (in), 7 OUT B (out)
part C pins: 8 OUT C (out), 9 -IN C (in), 10 +IN C (in)
part D pins: 12 +IN D (in), 13 -IN D (in), 14 OUT D (out)

## LT2079AIS
designator U?
Quad Channel, Micropower, Standard Pinout, Single Supply Precision Operational Amplifier, 0.2 MHz Typical GBW, 0.07 V/us Typical SR, 2.3 to 44 V, 14-Pin SOIC (S-14), Industrial; Linear Technology Part Number: LT2079; Manufacturer: Linear Technology; PartNumber: LT2079AIS; Channels (#): 4; GBW (MHz) Typical: 0.2; Is (mA) Typical: 0.035; SR (V/us) Typical: 0.07; Vos (mV) Guaranteed: 0.11; Vs Max (V): 44; Vs Min (V): 2.3; DatasheetVersion: Rev. A; PackageVersion: Rev G; PackageReference: LT-S-14; PackageDescription: 14-Lead Plastic Small Outline, Body 8.65 x 3.90 mm, Pitch 1.27 mm; Supplier 1: Digi-Key; Supplier Part Number 1: LT2079AIS-ND; Type: VFB; Vos (mV) Typical: 0.035; Mounting Technology: Surface Mount; ComponentLink1Description: Manufacturer URL; ComponentLink1URL: http://www.linear.com/; ComponentLink2Description: Datasheet; ComponentLink2URL: http://cds.linear.com/docs/en/datasheet/20789fa.pdf; ComponentLink3Description: Package Specification; ComponentLink3URL: http://cds.linear.com/docs/en/packaging/05081610_G_S14.pdf
footprint LT-S-14_N (SOIC, 14-Leads, Body 8.65x3.90mm, Pitch 1.27mm, IPC Medium Density)
footprint LT-S-14_L (SOIC, 14-Leads, Body 8.65x3.90mm, Pitch 1.27mm, IPC High Density)
footprint LT-S-14_M (SOIC, 14-Leads, Body 8.65x3.90mm, Pitch 1.27mm, IPC Low Density)
pins on every part: 4 V+ (power), 11 V- (power)
part A pins: 1 OUT A (out), 2 -IN A (in), 3 +IN A (in)
part B pins: 5 +IN B (in), 6 -IN B (in), 7 OUT B (out)
part C pins: 8 OUT C (out), 9 -IN C (in), 10 +IN C (in)
part D pins: 12 +IN D (in), 13 -IN D (in), 14 OUT D (out)

## LT2079AIS#PBF
designator U?
Quad Channel, Micropower, Standard Pinout, Single Supply Precision Operational Amplifier, 0.2 MHz Typical GBW, 0.07 V/us Typical SR, 2.3 to 44 V, 14-Pin SOIC (S-14), Industrial, Pb-Free; Linear Technology Part Number: LT2079; Manufacturer: Linear Technology; PartNumber: LT2079AIS#PBF; Channels (#): 4; GBW (MHz) Typical: 0.2; Is (mA) Typical: 0.035; SR (V/us) Typical: 0.07; Vos (mV) Guaranteed: 0.11; Vs Max (V): 44; Vs Min (V): 2.3; DatasheetVersion: Rev. A; PackageVersion: Rev G; PackageReference: LT-S-14; PackageDescription: 14-Lead Plastic Small Outline, Body 8.65 x 3.90 mm, Pitch 1.27 mm; Supplier 1: Digi-Key; Supplier Part Number 1: LT2079AIS#PBF-ND; Supplier 2: Farnell; Supplier Part Number 2: 2294690; Supplier 3: Newark; Supplier Part Number 3: 57M7787; RoHS: Pb-Free; Type: VFB; Vos (mV) Typical: 0.035; Mounting Technology: Surface Mount; ComponentLink1Description: Manufacturer URL; ComponentLink1URL: http://www.linear.com/; ComponentLink2Description: Datasheet; ComponentLink2URL: http://cds.linear.com/docs/en/datasheet/20789fa.pdf; ComponentLink3Description: Package Specification; ComponentLink3URL: http://cds.linear.com/docs/en/packaging/05081610_G_S14.pdf
footprint LT-S-14_N (SOIC, 14-Leads, Body 8.65x3.90mm, Pitch 1.27mm, IPC Medium Density)
footprint LT-S-14_L (SOIC, 14-Leads, Body 8.65x3.90mm, Pitch 1.27mm, IPC High Density)
footprint LT-S-14_M (SOIC, 14-Leads, Body 8.65x3.90mm, Pitch 1.27mm, IPC Low Density)
pins on every part: 4 V+ (power), 11 V- (power)
part A pins: 1 OUT A (out), 2 -IN A (in), 3 +IN A (in)
part B pins: 5 +IN B (in), 6 -IN B (in), 7 OUT B (out)
part C pins: 8 OUT C (out), 9 -IN C (in), 10 +IN C (in)
part D pins: 12 +IN D (in), 13 -IN D (in), 14 OUT D (out)

## LT2079AIS#TR
designator U?
Quad Channel, Micropower, Standard Pinout, Single Supply Precision Operational Amplifier, 0.2 MHz Typical GBW, 0.07 V/us Typical SR, 2.3 to 44 V, 14-Pin SOIC (S-14), Industrial, Reel; Linear Technology Part Number: LT2079; Manufacturer: Linear Technology; PartNumber: LT2079AIS#TR; Channels (#): 4; GBW (MHz) Typical: 0.2; Is (mA) Typical: 0.035; SR (V/us) Typical: 0.07; Vos (mV) Guaranteed: 0.11; Vs Max (V): 44; Vs Min (V): 2.3; DatasheetVersion: Rev. A; PackageVersion: Rev G; PackageReference: LT-S-14; PackageDescription: 14-Lead Plastic Small Outline, Body 8.65 x 3.90 mm, Pitch 1.27 mm; Supplier 1: Digi-Key; Supplier Part Number 1: LT2079AIS#TR-ND; Packing: Reel; Type: VFB; Vos (mV) Typical: 0.035; Mounting Technology: Surface Mount; ComponentLink1Description: Manufacturer URL; ComponentLink1URL: http://www.linear.com/; ComponentLink2Description: Datasheet; ComponentLink2URL: http://cds.linear.com/docs/en/datasheet/20789fa.pdf; ComponentLink3Description: Package Specification; ComponentLink3URL: http://cds.linear.com/docs/en/packaging/05081610_G_S14.pdf
footprint LT-S-14_N (SOIC, 14-Leads, Body 8.65x3.90mm, Pitch 1.27mm, IPC Medium Density)
footprint LT-S-14_L (SOIC, 14-Leads, Body 8.65x3.90mm, Pitch 1.27mm, IPC High Density)
footprint LT-S-14_M (SOIC, 14-Leads, Body 8.65x3.90mm, Pitch 1.27mm, IPC Low Density)
pins on every part: 4 V+ (power), 11 V- (power)
part A pins: 1 OUT A (out), 2 -IN A (in), 3 +IN A (in)
part B pins: 5 +IN B (in), 6 -IN B (in), 7 OUT B (out)
part C pins: 8 OUT C (out), 9 -IN C (in), 10 +IN C (in)
part D pins: 12 +IN D (in), 13 -IN D (in), 14 OUT D (out)

## LT2079AIS#TRPBF
designator U?
Quad Channel, Micropower, Standard Pinout, Single Supply Precision Operational Amplifier, 0.2 MHz Typical GBW, 0.07 V/us Typical SR, 2.3 to 44 V, 14-Pin SOIC (S-14), Industrial, Pb-Free, Reel; Linear Technology Part Number: LT2079; Manufacturer: Linear Technology; PartNumber: LT2079AIS#TRPBF; Channels (#): 4; GBW (MHz) Typical: 0.2; Is (mA) Typical: 0.035; SR (V/us) Typical: 0.07; Vos (mV) Guaranteed: 0.11; Vs Max (V): 44; Vs Min (V): 2.3; DatasheetVersion: Rev. A; PackageVersion: Rev G; PackageReference: LT-S-14; PackageDescription: 14-Lead Plastic Small Outline, Body 8.65 x 3.90 mm, Pitch 1.27 mm; Supplier 1: Digi-Key; Supplier Part Number 1: LT2079AIS#TRPBF-ND; Packing: Reel; RoHS: Pb-Free; Type: VFB; Vos (mV) Typical: 0.035; Mounting Technology: Surface Mount; ComponentLink1Description: Manufacturer URL; ComponentLink1URL: http://www.linear.com/; ComponentLink2Description: Datasheet; ComponentLink2URL: http://cds.linear.com/docs/en/datasheet/20789fa.pdf; ComponentLink3Description: Package Specification; ComponentLink3URL: http://cds.linear.com/docs/en/packaging/05081610_G_S14.pdf
footprint LT-S-14_N (SOIC, 14-Leads, Body 8.65x3.90mm, Pitch 1.27mm, IPC Medium Density)
footprint LT-S-14_L (SOIC, 14-Leads, Body 8.65x3.90mm, Pitch 1.27mm, IPC High Density)
footprint LT-S-14_M (SOIC, 14-Leads, Body 8.65x3.90mm, Pitch 1.27mm, IPC Low Density)
pins on every part: 4 V+ (power), 11 V- (power)
part A pins: 1 OUT A (out), 2 -IN A (in), 3 +IN A (in)
part B pins: 5 +IN B (in), 6 -IN B (in), 7 OUT B (out)
part C pins: 8 OUT C (out), 9 -IN C (in), 10 +IN C (in)
part D pins: 12 +IN D (in), 13 -IN D (in), 14 OUT D (out)

## LT2079CS
designator U?
Quad Channel, Micropower, Standard Pinout, Single Supply Precision Operational Amplifier, 0.2 MHz Typical GBW, 0.07 V/us Typical SR, 2.3 to 44 V, 14-Pin SOIC (S-14), Commercial; Linear Technology Part Number: LT2079; Manufacturer: Linear Technology; PartNumber: LT2079CS; Channels (#): 4; GBW (MHz) Typical: 0.2; Is (mA) Typical: 0.035; SR (V/us) Typical: 0.07; Vos (mV) Guaranteed: 0.11; Vs Max (V): 44; Vs Min (V): 2.3; DatasheetVersion: Rev. A; PackageVersion: Rev G; PackageReference: LT-S-14; PackageDescription: 14-Lead Plastic Small Outline, Body 8.65 x 3.90 mm, Pitch 1.27 mm; Supplier 1: Digi-Key; Supplier Part Number 1: LT2079CS-ND; Type: VFB; Vos (mV) Typical: 0.035; Mounting Technology: Surface Mount; ComponentLink1Description: Manufacturer URL; ComponentLink1URL: http://www.linear.com/; ComponentLink2Description: Datasheet; ComponentLink2URL: http://cds.linear.com/docs/en/datasheet/20789fa.pdf; ComponentLink3Description: Package Specification; ComponentLink3URL: http://cds.linear.com/docs/en/packaging/05081610_G_S14.pdf
footprint LT-S-14_N (SOIC, 14-Leads, Body 8.65x3.90mm, Pitch 1.27mm, IPC Medium Density)
footprint LT-S-14_L (SOIC, 14-Leads, Body 8.65x3.90mm, Pitch 1.27mm, IPC High Density)
footprint LT-S-14_M (SOIC, 14-Leads, Body 8.65x3.90mm, Pitch 1.27mm, IPC Low Density)
pins on every part: 4 V+ (power), 11 V- (power)
part A pins: 1 OUT A (out), 2 -IN A (in), 3 +IN A (in)
part B pins: 5 +IN B (in), 6 -IN B (in), 7 OUT B (out)
part C pins: 8 OUT C (out), 9 -IN C (in), 10 +IN C (in)
part D pins: 12 +IN D (in), 13 -IN D (in), 14 OUT D (out)

## LT2079CS#PBF
designator U?
Quad Channel, Micropower, Standard Pinout, Single Supply Precision Operational Amplifier, 0.2 MHz Typical GBW, 0.07 V/us Typical SR, 2.3 to 44 V, 14-Pin SOIC (S-14), Commercial, Pb-Free; Linear Technology Part Number: LT2079; Manufacturer: Linear Technology; PartNumber: LT2079CS#PBF; Channels (#): 4; GBW (MHz) Typical: 0.2; Is (mA) Typical: 0.035; SR (V/us) Typical: 0.07; Vos (mV) Guaranteed: 0.11; Vs Max (V): 44; Vs Min (V): 2.3; DatasheetVersion: Rev. A; PackageVersion: Rev G; PackageReference: LT-S-14; PackageDescription: 14-Lead Plastic Small Outline, Body 8.65 x 3.90 mm, Pitch 1.27 mm; Supplier 1: Digi-Key; Supplier Part Number 1: LT2079CS#PBF-ND; RoHS: Pb-Free; Type: VFB; Vos (mV) Typical: 0.035; Mounting Technology: Surface Mount; ComponentLink1Description: Manufacturer URL; ComponentLink1URL: http://www.linear.com/; ComponentLink2Description: Datasheet; ComponentLink2URL: http://cds.linear.com/docs/en/datasheet/20789fa.pdf; ComponentLink3Description: Package Specification; ComponentLink3URL: http://cds.linear.com/docs/en/packaging/05081610_G_S14.pdf
footprint LT-S-14_N (SOIC, 14-Leads, Body 8.65x3.90mm, Pitch 1.27mm, IPC Medium Density)
footprint LT-S-14_L (SOIC, 14-Leads, Body 8.65x3.90mm, Pitch 1.27mm, IPC High Density)
footprint LT-S-14_M (SOIC, 14-Leads, Body 8.65x3.90mm, Pitch 1.27mm, IPC Low Density)
pins on every part: 4 V+ (power), 11 V- (power)
part A pins: 1 OUT A (out), 2 -IN A (in), 3 +IN A (in)
part B pins: 5 +IN B (in), 6 -IN B (in), 7 OUT B (out)
part C pins: 8 OUT C (out), 9 -IN C (in), 10 +IN C (in)
part D pins: 12 +IN D (in), 13 -IN D (in), 14 OUT D (out)

## LT2079CS#TR
designator U?
Quad Channel, Micropower, Standard Pinout, Single Supply Precision Operational Amplifier, 0.2 MHz Typical GBW, 0.07 V/us Typical SR, 2.3 to 44 V, 14-Pin SOIC (S-14), Commercial, Reel; Linear Technology Part Number: LT2079; Manufacturer: Linear Technology; PartNumber: LT2079CS#TR; Channels (#): 4; GBW (MHz) Typical: 0.2; Is (mA) Typical: 0.035; SR (V/us) Typical: 0.07; Vos (mV) Guaranteed: 0.11; Vs Max (V): 44; Vs Min (V): 2.3; DatasheetVersion: Rev. A; PackageVersion: Rev G; PackageReference: LT-S-14; PackageDescription: 14-Lead Plastic Small Outline, Body 8.65 x 3.90 mm, Pitch 1.27 mm; Supplier 1: Digi-Key; Supplier Part Number 1: LT2079CS#TR-ND; Packing: Reel; Type: VFB; Vos (mV) Typical: 0.035; Mounting Technology: Surface Mount; ComponentLink1Description: Manufacturer URL; ComponentLink1URL: http://www.linear.com/; ComponentLink2Description: Datasheet; ComponentLink2URL: http://cds.linear.com/docs/en/datasheet/20789fa.pdf; ComponentLink3Description: Package Specification; ComponentLink3URL: http://cds.linear.com/docs/en/packaging/05081610_G_S14.pdf
footprint LT-S-14_N (SOIC, 14-Leads, Body 8.65x3.90mm, Pitch 1.27mm, IPC Medium Density)
footprint LT-S-14_L (SOIC, 14-Leads, Body 8.65x3.90mm, Pitch 1.27mm, IPC High Density)
footprint LT-S-14_M (SOIC, 14-Leads, Body 8.65x3.90mm, Pitch 1.27mm, IPC Low Density)
pins on every part: 4 V+ (power), 11 V- (power)
part A pins: 1 OUT A (out), 2 -IN A (in), 3 +IN A (in)
part B pins: 5 +IN B (in), 6 -IN B (in), 7 OUT B (out)
part C pins: 8 OUT C (out), 9 -IN C (in), 10 +IN C (in)
part D pins: 12 +IN D (in), 13 -IN D (in), 14 OUT D (out)

## LT2079CS#TRPBF
designator U?
Quad Channel, Micropower, Standard Pinout, Single Supply Precision Operational Amplifier, 0.2 MHz Typical GBW, 0.07 V/us Typical SR, 2.3 to 44 V, 14-Pin SOIC (S-14), Commercial, Pb-Free, Reel; Linear Technology Part Number: LT2079; Manufacturer: Linear Technology; PartNumber: LT2079CS#TRPBF; Channels (#): 4; GBW (MHz) Typical: 0.2; Is (mA) Typical: 0.035; SR (V/us) Typical: 0.07; Vos (mV) Guaranteed: 0.11; Vs Max (V): 44; Vs Min (V): 2.3; DatasheetVersion: Rev. A; PackageVersion: Rev G; PackageReference: LT-S-14; PackageDescription: 14-Lead Plastic Small Outline, Body 8.65 x 3.90 mm, Pitch 1.27 mm; Supplier 1: Digi-Key; Supplier Part Number 1: LT2079CS#TRPBF-ND; Packing: Reel; RoHS: Pb-Free; Type: VFB; Vos (mV) Typical: 0.035; Mounting Technology: Surface Mount; ComponentLink1Description: Manufacturer URL; ComponentLink1URL: http://www.linear.com/; ComponentLink2Description: Datasheet; ComponentLink2URL: http://cds.linear.com/docs/en/datasheet/20789fa.pdf; ComponentLink3Description: Package Specification; ComponentLink3URL: http://cds.linear.com/docs/en/packaging/05081610_G_S14.pdf
footprint LT-S-14_N (SOIC, 14-Leads, Body 8.65x3.90mm, Pitch 1.27mm, IPC Medium Density)
footprint LT-S-14_L (SOIC, 14-Leads, Body 8.65x3.90mm, Pitch 1.27mm, IPC High Density)
footprint LT-S-14_M (SOIC, 14-Leads, Body 8.65x3.90mm, Pitch 1.27mm, IPC Low Density)
pins on every part: 4 V+ (power), 11 V- (power)
part A pins: 1 OUT A (out), 2 -IN A (in), 3 +IN A (in)
part B pins: 5 +IN B (in), 6 -IN B (in), 7 OUT B (out)
part C pins: 8 OUT C (out), 9 -IN C (in), 10 +IN C (in)
part D pins: 12 +IN D (in), 13 -IN D (in), 14 OUT D (out)

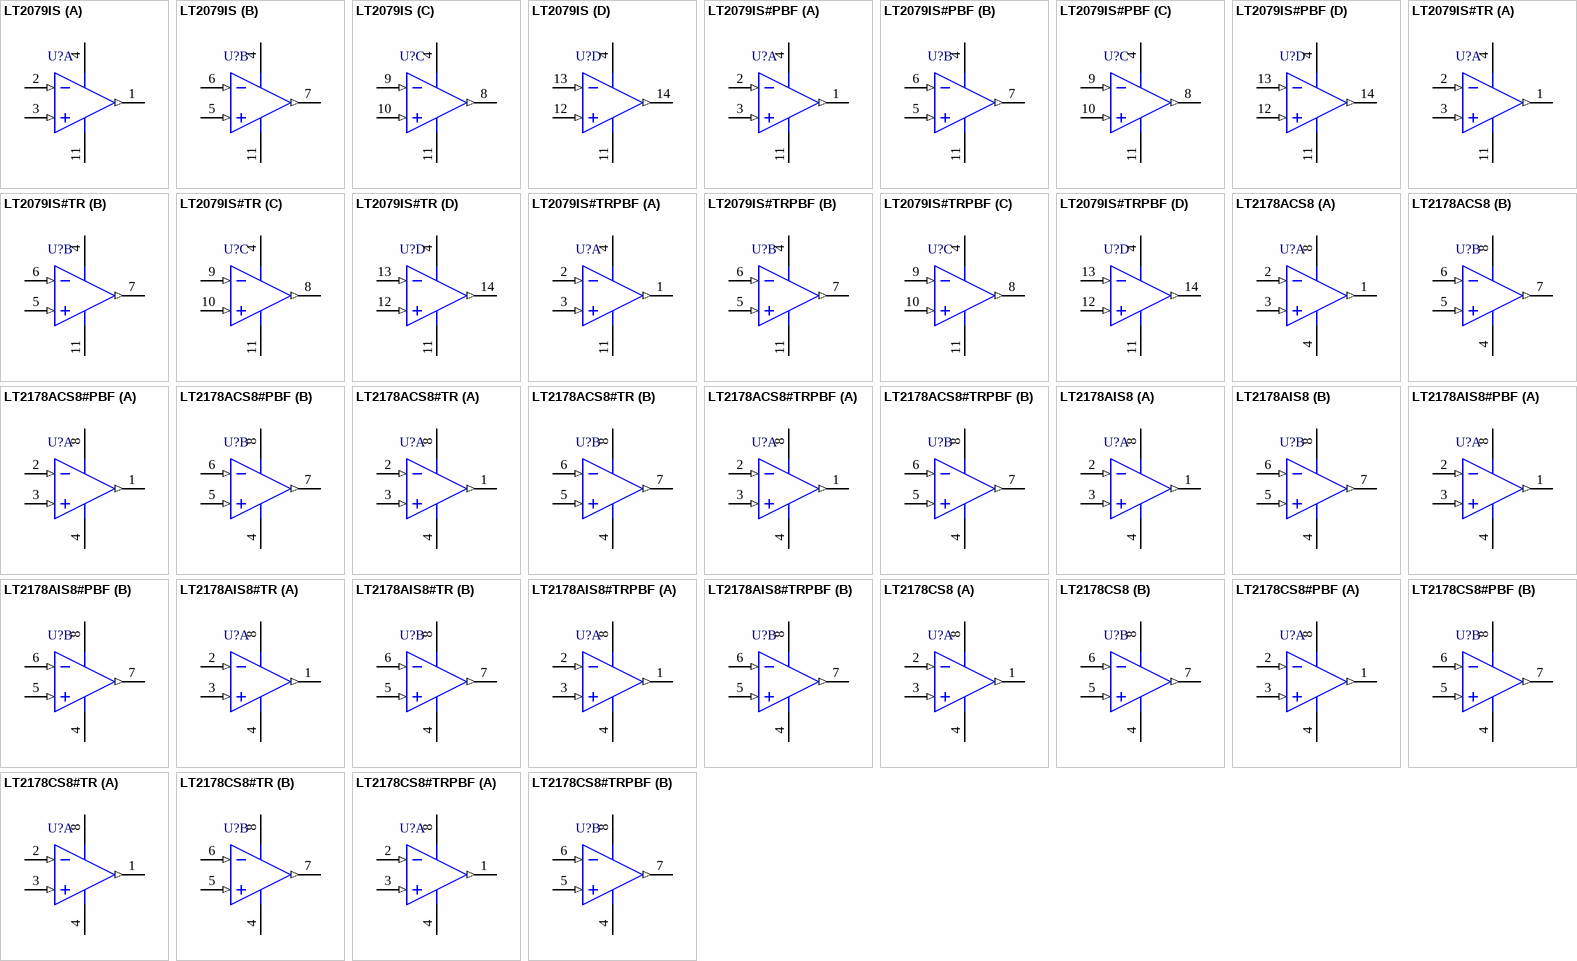
[diagram p2: symbols LT2079IS to LT2178CS8#TRPBF]

## LT2079IS
designator U?
Quad Channel, Micropower, Standard Pinout, Single Supply Precision Operational Amplifier, 0.2 MHz Typical GBW, 0.07 V/us Typical SR, 2.3 to 44 V, 14-Pin SOIC (S-14), Industrial; Linear Technology Part Number: LT2079; Manufacturer: Linear Technology; PartNumber: LT2079IS; Channels (#): 4; GBW (MHz) Typical: 0.2; Is (mA) Typical: 0.035; SR (V/us) Typical: 0.07; Vos (mV) Guaranteed: 0.11; Vs Max (V): 44; Vs Min (V): 2.3; DatasheetVersion: Rev. A; PackageVersion: Rev G; PackageReference: LT-S-14; PackageDescription: 14-Lead Plastic Small Outline, Body 8.65 x 3.90 mm, Pitch 1.27 mm; Supplier 1: Digi-Key; Supplier Part Number 1: LT2079IS-ND; Type: VFB; Vos (mV) Typical: 0.035; Mounting Technology: Surface Mount; ComponentLink1Description: Manufacturer URL; ComponentLink1URL: http://www.linear.com/; ComponentLink2Description: Datasheet; ComponentLink2URL: http://cds.linear.com/docs/en/datasheet/20789fa.pdf; ComponentLink3Description: Package Specification; ComponentLink3URL: http://cds.linear.com/docs/en/packaging/05081610_G_S14.pdf
footprint LT-S-14_N (SOIC, 14-Leads, Body 8.65x3.90mm, Pitch 1.27mm, IPC Medium Density)
footprint LT-S-14_L (SOIC, 14-Leads, Body 8.65x3.90mm, Pitch 1.27mm, IPC High Density)
footprint LT-S-14_M (SOIC, 14-Leads, Body 8.65x3.90mm, Pitch 1.27mm, IPC Low Density)
pins on every part: 4 V+ (power), 11 V- (power)
part A pins: 1 OUT A (out), 2 -IN A (in), 3 +IN A (in)
part B pins: 5 +IN B (in), 6 -IN B (in), 7 OUT B (out)
part C pins: 8 OUT C (out), 9 -IN C (in), 10 +IN C (in)
part D pins: 12 +IN D (in), 13 -IN D (in), 14 OUT D (out)

## LT2079IS#PBF
designator U?
Quad Channel, Micropower, Standard Pinout, Single Supply Precision Operational Amplifier, 0.2 MHz Typical GBW, 0.07 V/us Typical SR, 2.3 to 44 V, 14-Pin SOIC (S-14), Industrial, Pb-Free; Linear Technology Part Number: LT2079; Manufacturer: Linear Technology; PartNumber: LT2079IS#PBF; Channels (#): 4; GBW (MHz) Typical: 0.2; Is (mA) Typical: 0.035; SR (V/us) Typical: 0.07; Vos (mV) Guaranteed: 0.11; Vs Max (V): 44; Vs Min (V): 2.3; DatasheetVersion: Rev. A; PackageVersion: Rev G; PackageReference: LT-S-14; PackageDescription: 14-Lead Plastic Small Outline, Body 8.65 x 3.90 mm, Pitch 1.27 mm; Supplier 1: Digi-Key; Supplier Part Number 1: LT2079IS#PBF-ND; Supplier 2: Newark; Supplier Part Number 2: 57M7795; RoHS: Pb-Free; Type: VFB; Vos (mV) Typical: 0.035; Mounting Technology: Surface Mount; ComponentLink1Description: Manufacturer URL; ComponentLink1URL: http://www.linear.com/; ComponentLink2Description: Datasheet; ComponentLink2URL: http://cds.linear.com/docs/en/datasheet/20789fa.pdf; ComponentLink3Description: Package Specification; ComponentLink3URL: http://cds.linear.com/docs/en/packaging/05081610_G_S14.pdf
footprint LT-S-14_N (SOIC, 14-Leads, Body 8.65x3.90mm, Pitch 1.27mm, IPC Medium Density)
footprint LT-S-14_L (SOIC, 14-Leads, Body 8.65x3.90mm, Pitch 1.27mm, IPC High Density)
footprint LT-S-14_M (SOIC, 14-Leads, Body 8.65x3.90mm, Pitch 1.27mm, IPC Low Density)
pins on every part: 4 V+ (power), 11 V- (power)
part A pins: 1 OUT A (out), 2 -IN A (in), 3 +IN A (in)
part B pins: 5 +IN B (in), 6 -IN B (in), 7 OUT B (out)
part C pins: 8 OUT C (out), 9 -IN C (in), 10 +IN C (in)
part D pins: 12 +IN D (in), 13 -IN D (in), 14 OUT D (out)

## LT2079IS#TR
designator U?
Quad Channel, Micropower, Standard Pinout, Single Supply Precision Operational Amplifier, 0.2 MHz Typical GBW, 0.07 V/us Typical SR, 2.3 to 44 V, 14-Pin SOIC (S-14), Industrial, Reel; Linear Technology Part Number: LT2079; Manufacturer: Linear Technology; PartNumber: LT2079IS#TR; Channels (#): 4; GBW (MHz) Typical: 0.2; Is (mA) Typical: 0.035; SR (V/us) Typical: 0.07; Vos (mV) Guaranteed: 0.11; Vs Max (V): 44; Vs Min (V): 2.3; DatasheetVersion: Rev. A; PackageVersion: Rev G; PackageReference: LT-S-14; PackageDescription: 14-Lead Plastic Small Outline, Body 8.65 x 3.90 mm, Pitch 1.27 mm; Supplier 1: Digi-Key; Supplier Part Number 1: LT2079IS#TR-ND; Packing: Reel; Type: VFB; Vos (mV) Typical: 0.035; Mounting Technology: Surface Mount; ComponentLink1Description: Manufacturer URL; ComponentLink1URL: http://www.linear.com/; ComponentLink2Description: Datasheet; ComponentLink2URL: http://cds.linear.com/docs/en/datasheet/20789fa.pdf; ComponentLink3Description: Package Specification; ComponentLink3URL: http://cds.linear.com/docs/en/packaging/05081610_G_S14.pdf
footprint LT-S-14_N (SOIC, 14-Leads, Body 8.65x3.90mm, Pitch 1.27mm, IPC Medium Density)
footprint LT-S-14_L (SOIC, 14-Leads, Body 8.65x3.90mm, Pitch 1.27mm, IPC High Density)
footprint LT-S-14_M (SOIC, 14-Leads, Body 8.65x3.90mm, Pitch 1.27mm, IPC Low Density)
pins on every part: 4 V+ (power), 11 V- (power)
part A pins: 1 OUT A (out), 2 -IN A (in), 3 +IN A (in)
part B pins: 5 +IN B (in), 6 -IN B (in), 7 OUT B (out)
part C pins: 8 OUT C (out), 9 -IN C (in), 10 +IN C (in)
part D pins: 12 +IN D (in), 13 -IN D (in), 14 OUT D (out)